# EAGLE library part L80-M39 (library L80-M39)
L80 GPS Module Source: Datasheet <http://docs-emea.rs-online.com/webdocs/147d/0900766b8147dbf2.pdf>
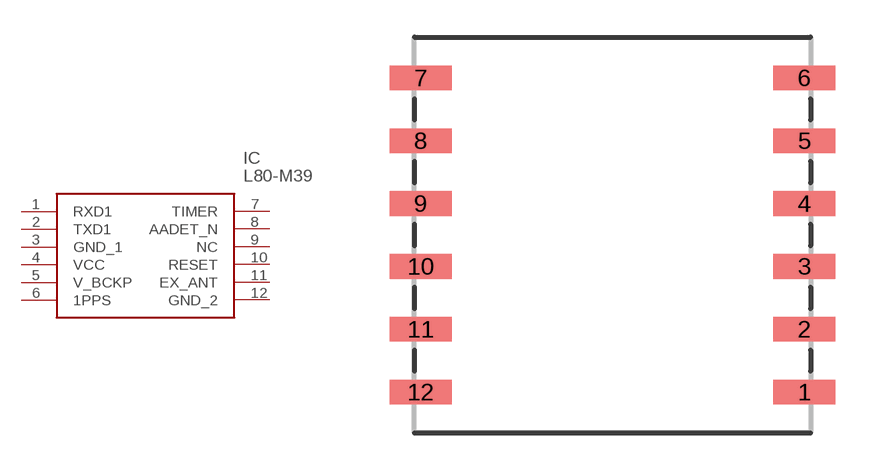
[diagram p0: symbol with the pads of L80-M39; footprint L80-M39]

Designator prefix IC

## L80-M39 (Description: L80 GPS Module; Height: mm; Manufacturer_Name: Quectel; Manufacturer_Part_Number: L80-M39; RS_Part_Number: 9084088; RS_Price-Stock: http://uk.rs-online.com/web/p/products/9084088)  [L80-M39]
1  RXD1
2  TXD1
3  GND_1
4  VCC
5  V_BCKP
6  1PPS
7  TIMER
8  AADET_N
9  NC  nc
10  RESET
11  EX_ANT
12  GND_2

## Footprint L80-M39 (pad centres in mm)
L80-M39
smd 2.5 x 1: 1 15.5,-11.43; 2 15.5,-8.89; 3 15.5,-6.35; 4 15.5,-3.81; 5 15.5,-1.27; 6 15.5,1.27; 7 0,1.27; 8 0,-1.27; 9 0,-3.81; 10 0,-6.35; 11 0,-8.89; 12 0,-11.43